# EAGLE library part M25P80 (library IC)
ST Micro M25P80 8 Mbit Serial Flash Memory
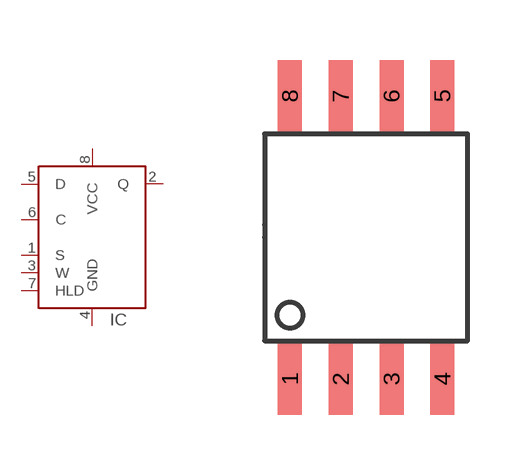
[diagram p54: symbol with the pads of SOIC8_EIAJ; footprint SOIC8_EIAJ]

Designator prefix IC

## M25P80-SO8_W  [SOIC8_EIAJ]
1  S
2  Q  out
3  W
4  GND  pwr
5  D  in
6  C
7  HLD
8  VCC  pwr

## Footprint SOIC8_EIAJ (pad centres in mm)
8 pin soic package 0.209" Body
smd 0.6 x 1.8: 1 -1.905,-3.54; 2 -0.635,-3.54; 3 0.635,-3.54; 4 1.905,-3.54; 5 1.905,3.54; 6 0.635,3.54; 7 -0.635,3.54; 8 -1.905,3.54